# EAGLE library part LUXDRIVE-BUCKPUCK (library AKA_test)
3021/3023 BuckPuck Vin max: 32V Vin min: 5V Control in MAX: 10V Output current, 3021-x-x-350, 3023-x-x-350 . . . . . . . . . . . . . . . . . . . . . . . . . . . . . . . . 350mA Output current, 3021-x-x-500, 3023-x-x-500 . . . . . . . . . . . . . . . . . . . . . . . . . . . . . . . . 500mA Output current, 3021-x-x-700, 3023-x-x-700 . . . . . . . . . . . . . . . . . . . . . . . . . . . . . . . . 700mA Output current, 3021-x-x-1000, 3023-x-x-1000 . . . . . . . . . . . . . . . . . . . . . . . . . . . . . 1000mA Control Pin, adjustment threshold . . . . . . . . . . . . . . . . . . . . . . . . . . . . . . . . . . . . . . . 1.65 V ±5% Control Pin,shutoff threshold . . . . . . . . . . . . . . . . . . . . . . . . . . . . . . . . . . . . . . . . . . . 4.2 V ±5% Control Pin, propagation delay to output . . . . . . . . . . . . . . . . . . . . . . . . . . . . . . . . . . <15 µs Control Pin, input impedance . . . . . . . . . . . . . . . . . . . . . . . . . . . . . . . . . . . . . . . . . . . 1.5k ohm Reference voltage (Vin= 7V or greater) . . . . . . . . . . . . . . . . . . . . . . . . . . . . . . . . . . . . . 5 VDC ±5% Optional trim pot adjustment range . . . . . . . . . . . . . . . . . . . . . . . . . . . . . . . . . . . . . . 40%-110% External pot adjustment range . . . . . . . . . . . . . . . . . . . . . . . . . . . . . . . . . . . . . . . . . . 0%,1-100% Maximum flash frequency . . . . . . . . . . . . . . . . . . . . . . . . . . . . . . . . . . . . . . . . . . . . . . 10 kHz Minimum strobe pulse width . . . . . . . . . . . . . . . . . . . . . . . . . . . . . . . . . . . . . . . . . . . . 50 µs Output rise time . . . . . . . . . . . . . . . . . . . . . . . . . . . . . . . . . . . . . . . . . . . . . . . . . . . . . <10 µs Output fall time . . . . . . . . . . . . . . . . . . . . . . . . . . . . . . . . . . . . . . . . . . . . . . . . . . . . . . <350 µs Quiescent current (no load or control pin high) . . . . . . . . . . . . . . . . . . . . . . . . . . . . . . <4.5 mA Operating temperature (Tcase). . . . . . . . . . . . . . . . . . . . . . . . . . . . . . . . . . . . . . . . . . . -40-+80°C Storage temperature . . . . . . . . . . . . . . . . . . . . . . . . . . . . . . . . . . . . . . . . . . . . . . . . . . -40-+125°C The 3021 and 3023 BuckPuck <http://www.luxdrive.com/content/3021-BuckPuck.pdf> LED Power Modules are a line of true current regulated drivers for powering LEDs. The BuckPuck line of LED drivers is the ideal choice for powering all types of highbrightness and high-power LED Packages and LED arrays. The line of BuckPuck LED drivers exhibit high effciency and require no external current limiting resistors or additional heatsinking for operation. A fast response current-sensing circuit makes the 3021 and 3023 ideal for applications where flashing or strobe operation of the LED(s) is required. A wide range of options are available including external dc analog voltage intensity control, TTL/CMOS logic level on/off control (”E” Version), and set-and-forget internal current limiting (”I” Version). The standard units are fully potted in an extremely small form factor* and are provided with a simple 7 pin SIP connection for through-hole PCB mounting (3021) or 6” 24AWG Colored Leads (3023). The 3021 and 3023’s built-in regulated 5V reference (E and I versions) can provide output to power logic circuitry or microprocessor, eliminating the need for an additional power supply on the circuit board.
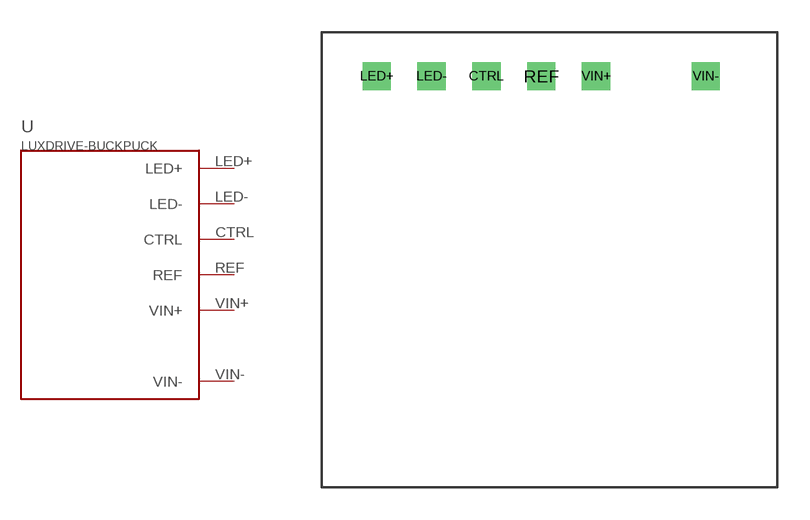
[diagram p8: symbol with the pads of LUXDRIVE-BUCKPUCK; footprint LUXDRIVE-BUCKPUCK]

Designator prefix -

## LUXDRIVE-BUCKPUCK  [LUXDRIVE-BUCKPUCK]
CTRL  CTRL
LED+  LED+
LED-  LED-
REF  REF
VIN+  VIN+
VIN-  VIN-

## Footprint LUXDRIVE-BUCKPUCK (pad centres in mm)
drill 0.8 square: CTRL 7.62,19.05; LED+ 2.54,19.05; LED- 5.08,19.05; REF 10.16,19.05; VIN+ 12.7,19.05; VIN- 17.78,19.05